# Altium integrated library Silicon Labs Automotive & Industrial MCUs.IntLib: 240 symbols (part 3 of 8)
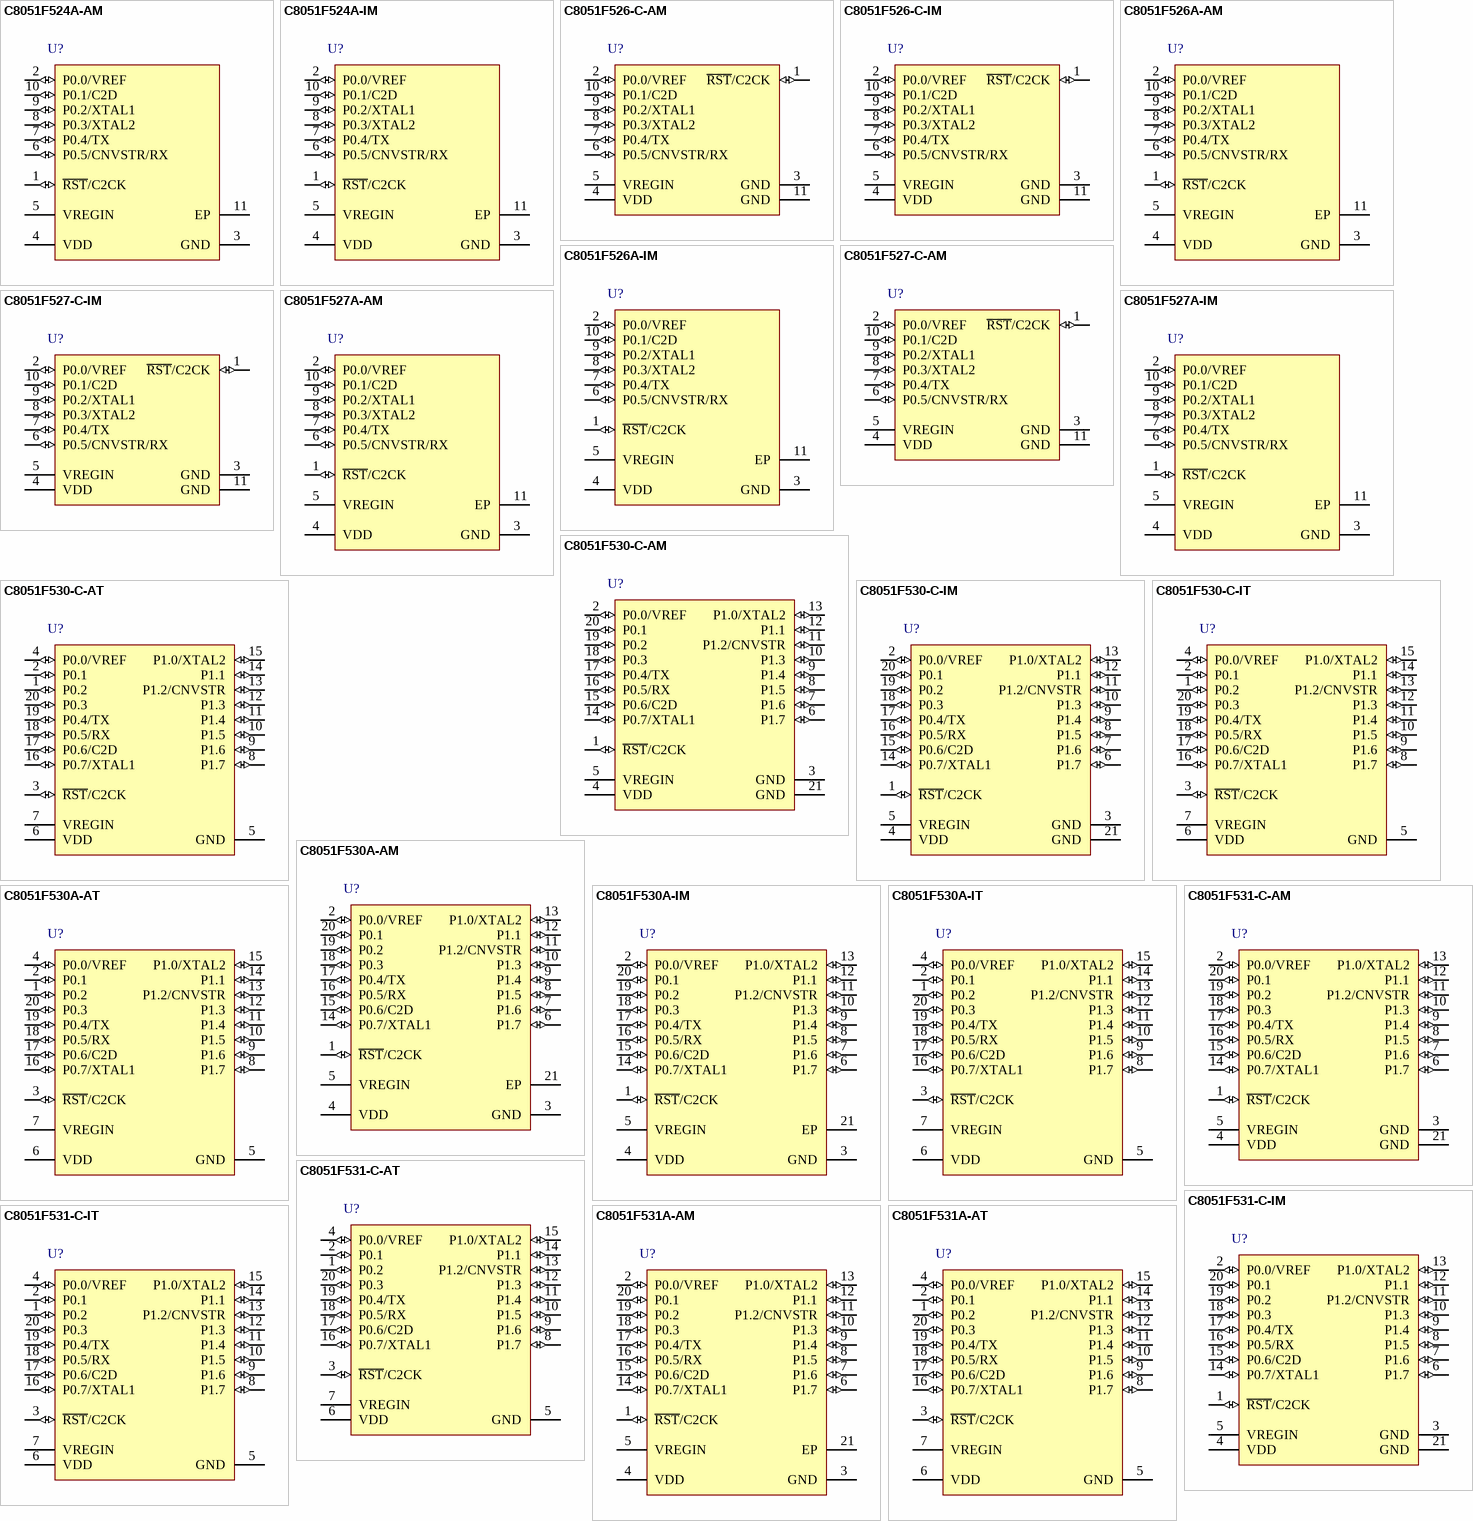
[diagram p15: symbols C8051F524A-AM to C8051F531A-AT]

## C8051F530A-AT
designator U?
Mixed Signal 8KB Flash ISP MCU, 256B RAM, 16 I/Os, 12-Bit 16 Channel ADC, LIN 2.1, 20-Pin TSSOP, Automotive Grade; Manufacturer: Silicon Labs; PartNumber: C8051F530A-AT; DatasheetVersion: rev1.3, Apr-2011; PackageVersion: 2011; PackageReference: TSSOP-20; PackageDescription: 20-Pin Thin Small Outline Package 6.5 x 4.4 mm Body, 0.65 mm Pitch; Code_JEDEC: MO-153-AC; ComponentLink1Description: Manufacturer URL; ComponentLink1URL: http://www.silabs.com; ComponentLink2Description: Datasheet; ComponentLink2URL: http://www.silabs.com/Support%20Documents/TechnicalDocs/C8051F52x-F53x.pdf
footprint TSSOP-20_N (TSOP, 20-Leads, Body 6.5x4.4mm, Pitch 0.65mm, IPC Medium Density)
footprint TSSOP-20_L (TSOP, 20-Leads, Body 6.5x4.4mm, Pitch 0.65mm, IPC High Density)
footprint TSSOP-20_M (TSOP, 20-Leads, Body 6.5x4.4mm, Pitch 0.65mm, IPC Low Density)
pins: 1 P0.2 (io), 2 P0.1 (io), 3 ~{RST}/C2CK (io), 4 P0.0/VREF (io), 5 GND (power), 6 VDD (power), 7 VREGIN (power), 8 P1.7 (io), 9 P1.6 (io), 10 P1.5 (io), 11 P1.4 (io), 12 P1.3 (io), 13 P1.2/CNVSTR (io), 14 P1.1 (io), 15 P1.0/XTAL2 (io), 16 P0.7/XTAL1 (io), 17 P0.6/C2D (io), 18 P0.5/RX (io), 19 P0.4/TX (io), 20 P0.3 (io)

## C8051F530A-IM
designator U?
Mixed Signal 8KB Flash ISP MCU, 256B RAM, 16 I/Os, 12-Bit 16 Channel ADC, LIN 2.1, 20-Pin QFN, Industrial Grade; Manufacturer: Silicon Labs; PartNumber: C8051F530A-IM; DatasheetVersion: rev1.3, Apr-2011; PackageVersion: 2011; PackageReference: QFN-20; PackageDescription: 20-Pin Quad Flat No-Lead, 4 x 4 x 0.9 mm Body, 0.5 mm Pitch; Supplier 1: Digi-Key; Supplier Part Number 1: 336-1485-5-ND; Supplier 2: Mouser; Supplier Part Number 2: 634-C8051F530A-IM; Code_JEDEC: MO-220-VGGD; ComponentLink1Description: Manufacturer URL; ComponentLink1URL: http://www.silabs.com; ComponentLink2Description: Datasheet; ComponentLink2URL: http://www.silabs.com/Support%20Documents/TechnicalDocs/C8051F52x-F53x.pdf
footprint QFN-20_V (QFN, 20-Leads, Body 4x4mm, Pitch 0.5mm, Thermal Pad 2.8x2.8mm, Silicon Labs Recommended)
pins: 1 ~{RST}/C2CK (io), 2 P0.0/VREF (io), 3 GND (power), 4 VDD (power), 5 VREGIN (power), 6 P1.7 (io), 7 P1.6 (io), 8 P1.5 (io), 9 P1.4 (io), 10 P1.3 (io), 11 P1.2/CNVSTR (io), 12 P1.1 (io), 13 P1.0/XTAL2 (io), 14 P0.7/XTAL1 (io), 15 P0.6/C2D (io), 16 P0.5/RX (io), 17 P0.4/TX (io), 18 P0.3 (io), 19 P0.2 (io), 20 P0.1 (io), 21 EP (power)

## C8051F530A-IT
designator U?
Mixed Signal 8KB Flash ISP MCU, 256B RAM, 16 I/Os, 12-Bit 16 Channel ADC, LIN 2.1, 20-Pin TSSOP, Industrial Grade; Manufacturer: Silicon Labs; PartNumber: C8051F530A-IT; DatasheetVersion: rev1.3, Apr-2011; PackageVersion: 2011; PackageReference: TSSOP-20; PackageDescription: 20-Pin Thin Small Outline Package 6.5 x 4.4 mm Body, 0.65 mm Pitch; Supplier 1: Digi-Key; Supplier Part Number 1: 336-1486-5-ND; Supplier 2: Mouser; Supplier Part Number 2: 634-C8051F530A-IT; Code_JEDEC: MO-153-AC; ComponentLink1Description: Manufacturer URL; ComponentLink1URL: http://www.silabs.com; ComponentLink2Description: Datasheet; ComponentLink2URL: http://www.silabs.com/Support%20Documents/TechnicalDocs/C8051F52x-F53x.pdf
footprint TSSOP-20_N (TSOP, 20-Leads, Body 6.5x4.4mm, Pitch 0.65mm, IPC Medium Density)
footprint TSSOP-20_L (TSOP, 20-Leads, Body 6.5x4.4mm, Pitch 0.65mm, IPC High Density)
footprint TSSOP-20_M (TSOP, 20-Leads, Body 6.5x4.4mm, Pitch 0.65mm, IPC Low Density)
pins: 1 P0.2 (io), 2 P0.1 (io), 3 ~{RST}/C2CK (io), 4 P0.0/VREF (io), 5 GND (power), 6 VDD (power), 7 VREGIN (power), 8 P1.7 (io), 9 P1.6 (io), 10 P1.5 (io), 11 P1.4 (io), 12 P1.3 (io), 13 P1.2/CNVSTR (io), 14 P1.1 (io), 15 P1.0/XTAL2 (io), 16 P0.7/XTAL1 (io), 17 P0.6/C2D (io), 18 P0.5/RX (io), 19 P0.4/TX (io), 20 P0.3 (io)

## C8051F531-C-AM
designator U?
ISP Flash MCU Family, 25 MHz, 0.25 kB RAM, 8 kB Flash, -40 to 125 degC, 20-pin QFN; Manufacturer: Silicon Labs; PartNumber: C8051F531-C-AM; Note: 0; ADC 1: 12-bit, 16-ch., 200 ksps; AEC-Q100: TRUE; Comparators: 1; Debug Interface: C2; Dig I/O Pins: 16; Flash: 8 kB; Internal Osc. Accuracy: +/-0.5%; MCU Core: 8051; MHz: 25; PCA Channels: 3; RAM: 0.25 kB; Sub-Family: Automotive & Industrial MCUs; DatasheetVersion: Rev. 1.4; PackageReference: QFN-20; PackageDescription: 20-Pin Quad-Flat No-Leads Package, Body 4 x 4 mm, Pitch 0.5 mm; Temp Sensor: TRUE; Timers (16-bit): 3; Mounting Technology: Surface Mount; Code_JEDEC: MO-220; Code_IPC: J-STD-020; ComponentLink1Description: Manufacturer URL; ComponentLink1URL: http://www.silabs.com; ComponentLink2Description: Datasheet; ComponentLink2URL: http://www.silabs.com/Support Documents/TechnicalDocs/C8051F52x-F53x.pdf; ComponentLink3Description: Package Specification; ComponentLink3URL: http://www.silabs.com/Support%20Documents/TechnicalDocs/C8051F52x-F53x.pdf
footprint SLAB-QFN-20-2700x2700TP_N (QFN, 20-Leads, Body 4x4mm, Pitch 0.5mm, Thermal Pad 2.7x2.7mm, IPC Medium Density)
footprint SLAB-QFN-20-2700x2700TP_L (QFN, 20-Leads, Body 4x4mm, Pitch 0.5mm, Thermal Pad 2.7x2.7mm, IPC High Density)
footprint SLAB-QFN-20-2700x2700TP_M (QFN, 20-Leads, Body 4x4mm, Pitch 0.5mm, Thermal Pad 2.7x2.7mm, IPC Low Density)
pins: 1 ~{RST}/C2CK (io), 2 P0.0/VREF (io), 3 GND (power) "Ground.", 4 VDD (power) "Core Supply Voltage.", 5 VREGIN (power) "On-Chip Voltage Regulator Input.", 6 P1.7 (io) "Port 1.7. See Port I/O Section for a complete description.", 7 P1.6 (io) "Port 1.6. See Port I/O Section for a complete description.", 8 P1.5 (io) "Port 1.5. See Port I/O Section for a complete description.", 9 P1.4 (io) "Port 1.4. See Port I/O Section for a complete description.", 10 P1.3 (io) "Port 1.3. See Port I/O Section for a complete description.", 11 P1.2/CNVSTR (io), 12 P1.1 (io) "Port 1.1. See Port I/O Section for a complete description.", 13 P1.0/XTAL2 (io), 14 P0.7/XTAL1 (io), 15 P0.6/C2D (io), 16 P0.5/RX (io), 17 P0.4/TX (io), 18 P0.3 (io) "Port 0.3. See Port I/O Section for a complete description.", 19 P0.2 (io) "Port 0.2. See Port I/O Section for a complete description.", 20 P0.1 (io) "Port 0.1. See Port I/O Section for a complete description.", 21 GND (power)

## C8051F531-C-AT
designator U?
ISP Flash MCU Family, 25 MHz, 0.25 kB RAM, 8 kB Flash, -40 to 125 degC, 20-pin SOP; Manufacturer: Silicon Labs; PartNumber: C8051F531-C-AT; Note: 0; ADC 1: 12-bit, 16-ch., 200 ksps; AEC-Q100: TRUE; Comparators: 1; Debug Interface: C2; Dig I/O Pins: 16; Flash: 8 kB; Internal Osc. Accuracy: +/-0.5%; MCU Core: 8051; MHz: 25; PCA Channels: 3; RAM: 0.25 kB; Sub-Family: Automotive & Industrial MCUs; DatasheetVersion: Rev. 1.4; PackageReference: TSSOP-20; PackageDescription: 20-Pin Thin Shrink Small-Outline Package, Body 6.5 x 4.4 mm, Pitch 0.65 mm; Temp Sensor: TRUE; Timers (16-bit): 3; Mounting Technology: Surface Mount; Code_JEDEC: MO-153; Code_IPC: J-STD-020; ComponentLink1Description: Manufacturer URL; ComponentLink1URL: http://www.silabs.com; ComponentLink2Description: Datasheet; ComponentLink2URL: http://www.silabs.com/Support Documents/TechnicalDocs/C8051F52x-F53x.pdf; ComponentLink3Description: Package Specification; ComponentLink3URL: http://www.silabs.com/Support Documents/TechnicalDocs/C8051F52x-F53x.pdf
footprint SLAB-TSSOP-20_N (SOP, 20-Leads, Body 6.6x4.5mm, Pitch 0.65mm, , IPC Medium Density)
footprint SLAB-TSSOP-20_L (SOP, 20-Leads, Body 6.6x4.5mm, Pitch 0.65mm, IPC High Density)
footprint SLAB-TSSOP-20_M (SOP, 20-Leads, Body 6.6x4.5mm, Pitch 0.65mm, IPC Low Density)
pins: 1 P0.2 (io) "Port 0.2. See Port I/O Section for a complete description.", 2 P0.1 (io) "Port 0.1. See Port I/O Section for a complete description.", 3 ~{RST}/C2CK (io), 4 P0.0/VREF (io), 5 GND (power) "Ground.", 6 VDD (power) "Core Supply Voltage.", 7 VREGIN (power) "On-Chip Voltage Regulator Input.", 8 P1.7 (io) "Port 1.7. See Port I/O Section for a complete description.", 9 P1.6 (io) "Port 1.6. See Port I/O Section for a complete description.", 10 P1.5 (io) "Port 1.5. See Port I/O Section for a complete description.", 11 P1.4 (io) "Port 1.4. See Port I/O Section for a complete description.", 12 P1.3 (io) "Port 1.3. See Port I/O Section for a complete description.", 13 P1.2/CNVSTR (io), 14 P1.1 (io) "Port 1.1. See Port I/O Section for a complete description.", 15 P1.0/XTAL2 (io), 16 P0.7/XTAL1 (io), 17 P0.6/C2D (io), 18 P0.5/RX (io), 19 P0.4/TX (io), 20 P0.3 (io) "Port 0.3. See Port I/O Section for a complete description."

## C8051F531-C-IM
designator U?
ISP Flash MCU Family, 25 MHz, 0.25 kB RAM, 8 kB Flash, -40 to 125 degC, 20-pin QFN; Manufacturer: Silicon Labs; PartNumber: C8051F531-C-IM; ADC 1: 12-bit, 16-ch., 200 ksps; AEC-Q100: FALSE; Comparators: 1; Debug Interface: C2; Dig I/O Pins: 16; Flash: 8 kB; Internal Osc. Accuracy: +/-0.5%; MCU Core: 8051; MHz: 25; PCA Channels: 3; RAM: 0.25 kB; Temp Sensor: TRUE; Sub-Family: Automotive & Industrial MCUs; DatasheetVersion: Rev. 1.4; PackageReference: QFN-20; PackageDescription: 20-Pin Quad-Flat No-Leads Package, Body 4 x 4 mm, Pitch 0.5 mm; Supplier 1: Digi-Key; Supplier Part Number 1: C8051F531-C-IM-ND; Supplier 2: Mouser; Supplier Part Number 2: 634-C8051F531-C-IM; Timers (16-bit): 3; Mounting Technology: Surface Mount; Code_JEDEC: MO-220; Code_IPC: J-STD-020; ComponentLink1Description: Manufacturer URL; ComponentLink1URL: http://www.silabs.com; ComponentLink2Description: Datasheet; ComponentLink2URL: http://www.silabs.com/Support Documents/TechnicalDocs/C8051F52x-F53x.pdf; ComponentLink3Description: Package Specification; ComponentLink3URL: http://www.silabs.com/Support%20Documents/TechnicalDocs/C8051F52x-F53x.pdf
footprint SLAB-QFN-20-2700x2700TP_N (QFN, 20-Leads, Body 4x4mm, Pitch 0.5mm, Thermal Pad 2.7x2.7mm, IPC Medium Density)
footprint SLAB-QFN-20-2700x2700TP_L (QFN, 20-Leads, Body 4x4mm, Pitch 0.5mm, Thermal Pad 2.7x2.7mm, IPC High Density)
footprint SLAB-QFN-20-2700x2700TP_M (QFN, 20-Leads, Body 4x4mm, Pitch 0.5mm, Thermal Pad 2.7x2.7mm, IPC Low Density)
pins: 1 ~{RST}/C2CK (io), 2 P0.0/VREF (io), 3 GND (power) "Ground.", 4 VDD (power) "Core Supply Voltage.", 5 VREGIN (power) "On-Chip Voltage Regulator Input.", 6 P1.7 (io) "Port 1.7. See Port I/O Section for a complete description.", 7 P1.6 (io) "Port 1.6. See Port I/O Section for a complete description.", 8 P1.5 (io) "Port 1.5. See Port I/O Section for a complete description.", 9 P1.4 (io) "Port 1.4. See Port I/O Section for a complete description.", 10 P1.3 (io) "Port 1.3. See Port I/O Section for a complete description.", 11 P1.2/CNVSTR (io), 12 P1.1 (io) "Port 1.1. See Port I/O Section for a complete description.", 13 P1.0/XTAL2 (io), 14 P0.7/XTAL1 (io), 15 P0.6/C2D (io), 16 P0.5/RX (io), 17 P0.4/TX (io), 18 P0.3 (io) "Port 0.3. See Port I/O Section for a complete description.", 19 P0.2 (io) "Port 0.2. See Port I/O Section for a complete description.", 20 P0.1 (io) "Port 0.1. See Port I/O Section for a complete description.", 21 GND (power)

## C8051F531-C-IT
designator U?
ISP Flash MCU Family, 25 MHz, 0.25 kB RAM, 8 kB Flash, -40 to 125 degC, 20-pin SOP; Manufacturer: Silicon Labs; PartNumber: C8051F531-C-IT; ADC 1: 12-bit, 16-ch., 200 ksps; AEC-Q100: FALSE; Comparators: 1; Debug Interface: C2; Dig I/O Pins: 16; Flash: 8 kB; Internal Osc. Accuracy: +/-0.5%; MCU Core: 8051; MHz: 25; PCA Channels: 3; RAM: 0.25 kB; Temp Sensor: TRUE; Sub-Family: Automotive & Industrial MCUs; DatasheetVersion: Rev. 1.4; PackageReference: TSSOP-20; PackageDescription: 20-Pin Thin Shrink Small-Outline Package, Body 6.5 x 4.4 mm, Pitch 0.65 mm; Supplier 1: Digi-Key; Supplier Part Number 1: C8051F531-C-IT-ND; Supplier 2: Mouser; Supplier Part Number 2: 634-C8051F531-C-IT; Timers (16-bit): 3; Mounting Technology: Surface Mount; Code_JEDEC: MO-153; Code_IPC: J-STD-020; ComponentLink1Description: Manufacturer URL; ComponentLink1URL: http://www.silabs.com; ComponentLink2Description: Datasheet; ComponentLink2URL: http://www.silabs.com/Support Documents/TechnicalDocs/C8051F52x-F53x.pdf; ComponentLink3Description: Package Specification; ComponentLink3URL: http://www.silabs.com/Support Documents/TechnicalDocs/C8051F52x-F53x.pdf
footprint SLAB-TSSOP-20_N (SOP, 20-Leads, Body 6.6x4.5mm, Pitch 0.65mm, , IPC Medium Density)
footprint SLAB-TSSOP-20_L (SOP, 20-Leads, Body 6.6x4.5mm, Pitch 0.65mm, IPC High Density)
footprint SLAB-TSSOP-20_M (SOP, 20-Leads, Body 6.6x4.5mm, Pitch 0.65mm, IPC Low Density)
pins: 1 P0.2 (io) "Port 0.2. See Port I/O Section for a complete description.", 2 P0.1 (io) "Port 0.1. See Port I/O Section for a complete description.", 3 ~{RST}/C2CK (io), 4 P0.0/VREF (io), 5 GND (power) "Ground.", 6 VDD (power) "Core Supply Voltage.", 7 VREGIN (power) "On-Chip Voltage Regulator Input.", 8 P1.7 (io) "Port 1.7. See Port I/O Section for a complete description.", 9 P1.6 (io) "Port 1.6. See Port I/O Section for a complete description.", 10 P1.5 (io) "Port 1.5. See Port I/O Section for a complete description.", 11 P1.4 (io) "Port 1.4. See Port I/O Section for a complete description.", 12 P1.3 (io) "Port 1.3. See Port I/O Section for a complete description.", 13 P1.2/CNVSTR (io), 14 P1.1 (io) "Port 1.1. See Port I/O Section for a complete description.", 15 P1.0/XTAL2 (io), 16 P0.7/XTAL1 (io), 17 P0.6/C2D (io), 18 P0.5/RX (io), 19 P0.4/TX (io), 20 P0.3 (io) "Port 0.3. See Port I/O Section for a complete description."

## C8051F531A-AM
designator U?
Mixed Signal 8KB Flash ISP MCU, 256B RAM, 16 I/Os, 12-Bit 16 Channel ADC, SPI, 20-Pin QFN, Automotive Grade; Manufacturer: Silicon Labs; PartNumber: C8051F531A-AM; DatasheetVersion: rev1.3, Apr-2011; PackageVersion: 2011; PackageReference: QFN-20; PackageDescription: 20-Pin Quad Flat No-Lead, 4 x 4 x 0.9 mm Body, 0.5 mm Pitch; Code_JEDEC: MO-220-VGGD; ComponentLink1Description: Manufacturer URL; ComponentLink1URL: http://www.silabs.com; ComponentLink2Description: Datasheet; ComponentLink2URL: http://www.silabs.com/Support%20Documents/TechnicalDocs/C8051F52x-F53x.pdf
footprint QFN-20_V (QFN, 20-Leads, Body 4x4mm, Pitch 0.5mm, Thermal Pad 2.8x2.8mm, Silicon Labs Recommended)
pins: 1 ~{RST}/C2CK (io), 2 P0.0/VREF (io), 3 GND (power), 4 VDD (power), 5 VREGIN (power), 6 P1.7 (io), 7 P1.6 (io), 8 P1.5 (io), 9 P1.4 (io), 10 P1.3 (io), 11 P1.2/CNVSTR (io), 12 P1.1 (io), 13 P1.0/XTAL2 (io), 14 P0.7/XTAL1 (io), 15 P0.6/C2D (io), 16 P0.5/RX (io), 17 P0.4/TX (io), 18 P0.3 (io), 19 P0.2 (io), 20 P0.1 (io), 21 EP (power)

## C8051F531A-AT
designator U?
Mixed Signal 8KB Flash ISP MCU, 256B RAM, 16 I/Os, 12-Bit 16 Channel ADC, SPI, 20-Pin TSSOP, Automotive Grade; Manufacturer: Silicon Labs; PartNumber: C8051F531A-AT; DatasheetVersion: rev1.3, Apr-2011; PackageVersion: 2011; PackageReference: TSSOP-20; PackageDescription: 20-Pin Thin Small Outline Package 6.5 x 4.4 mm Body, 0.65 mm Pitch; Code_JEDEC: MO-153-AC; ComponentLink1Description: Manufacturer URL; ComponentLink1URL: http://www.silabs.com; ComponentLink2Description: Datasheet; ComponentLink2URL: http://www.silabs.com/Support%20Documents/TechnicalDocs/C8051F52x-F53x.pdf
footprint TSSOP-20_N (TSOP, 20-Leads, Body 6.5x4.4mm, Pitch 0.65mm, IPC Medium Density)
footprint TSSOP-20_L (TSOP, 20-Leads, Body 6.5x4.4mm, Pitch 0.65mm, IPC High Density)
footprint TSSOP-20_M (TSOP, 20-Leads, Body 6.5x4.4mm, Pitch 0.65mm, IPC Low Density)
pins: 1 P0.2 (io), 2 P0.1 (io), 3 ~{RST}/C2CK (io), 4 P0.0/VREF (io), 5 GND (power), 6 VDD (power), 7 VREGIN (power), 8 P1.7 (io), 9 P1.6 (io), 10 P1.5 (io), 11 P1.4 (io), 12 P1.3 (io), 13 P1.2/CNVSTR (io), 14 P1.1 (io), 15 P1.0/XTAL2 (io), 16 P0.7/XTAL1 (io), 17 P0.6/C2D (io), 18 P0.5/RX (io), 19 P0.4/TX (io), 20 P0.3 (io)

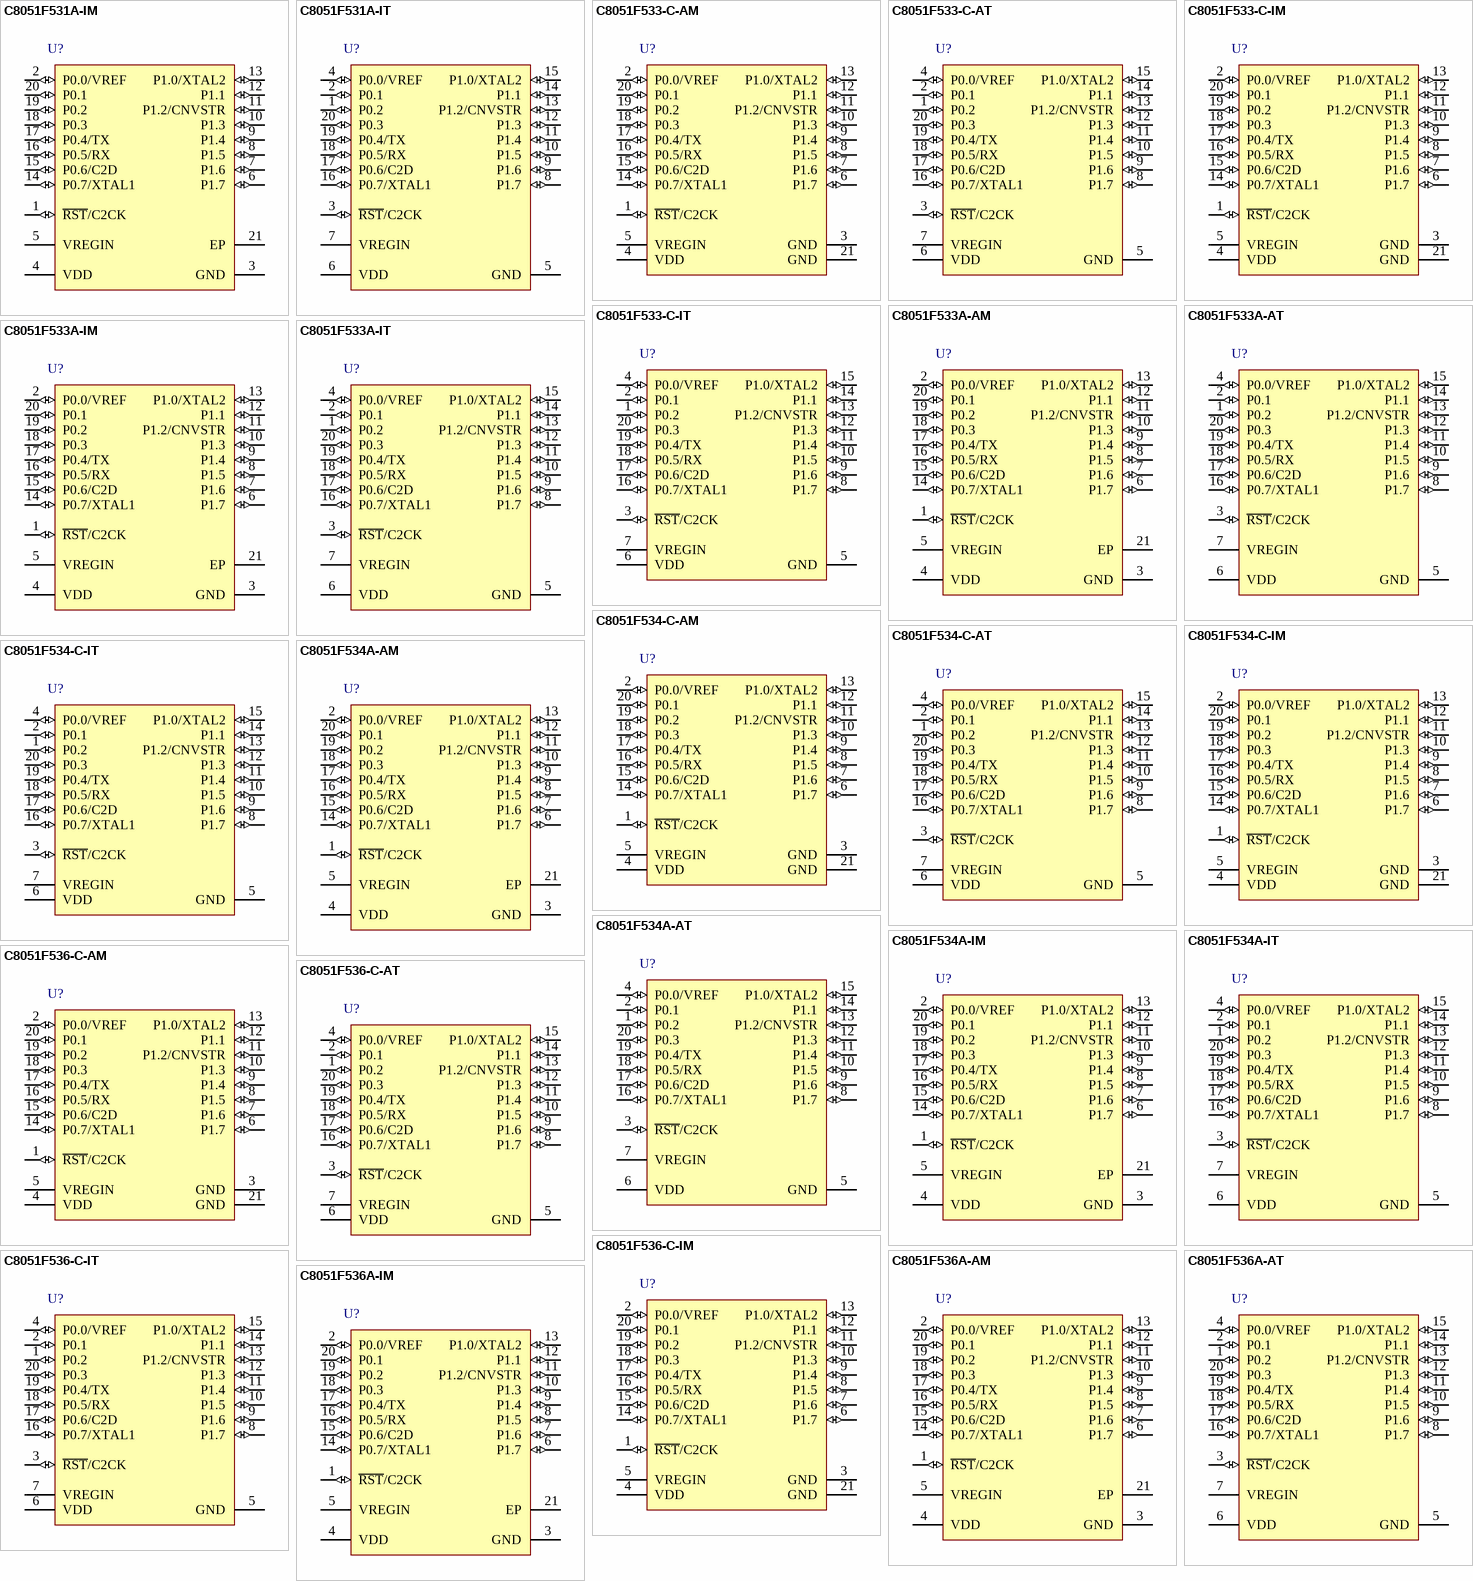
[diagram p4: symbols C8051F531A-IM to C8051F536A-IM]

## C8051F531A-IM
designator U?
Mixed Signal 8KB Flash ISP MCU, 256B RAM, 16 I/Os, 12-Bit 16 Channel ADC, SPI, 20-Pin QFN, Industrial Grade; Manufacturer: Silicon Labs; PartNumber: C8051F531A-IM; DatasheetVersion: rev1.3, Apr-2011; PackageVersion: 2011; PackageReference: QFN-20; PackageDescription: 20-Pin Quad Flat No-Lead, 4 x 4 x 0.9 mm Body, 0.5 mm Pitch; Supplier 1: Digi-Key; Supplier Part Number 1: 336-1495-5-ND; Supplier 2: Mouser; Supplier Part Number 2: 634-C8051F531A-IM; Code_JEDEC: MO-220-VGGD; ComponentLink1Description: Manufacturer URL; ComponentLink1URL: http://www.silabs.com; ComponentLink2Description: Datasheet; ComponentLink2URL: http://www.silabs.com/Support%20Documents/TechnicalDocs/C8051F52x-F53x.pdf
footprint QFN-20_V (QFN, 20-Leads, Body 4x4mm, Pitch 0.5mm, Thermal Pad 2.8x2.8mm, Silicon Labs Recommended)
pins: 1 ~{RST}/C2CK (io), 2 P0.0/VREF (io), 3 GND (power), 4 VDD (power), 5 VREGIN (power), 6 P1.7 (io), 7 P1.6 (io), 8 P1.5 (io), 9 P1.4 (io), 10 P1.3 (io), 11 P1.2/CNVSTR (io), 12 P1.1 (io), 13 P1.0/XTAL2 (io), 14 P0.7/XTAL1 (io), 15 P0.6/C2D (io), 16 P0.5/RX (io), 17 P0.4/TX (io), 18 P0.3 (io), 19 P0.2 (io), 20 P0.1 (io), 21 EP (power)

## C8051F531A-IT
designator U?
Mixed Signal 8KB Flash ISP MCU, 256B RAM, 16 I/Os, 12-Bit 16 Channel ADC, SPI, 20-Pin TSSOP, Industrial Grade; Manufacturer: Silicon Labs; PartNumber: C8051F531A-IT; DatasheetVersion: rev1.3, Apr-2011; PackageVersion: 2011; PackageReference: TSSOP-20; PackageDescription: 20-Pin Thin Small Outline Package 6.5 x 4.4 mm Body, 0.65 mm Pitch; Supplier 1: Digi-Key; Supplier Part Number 1: 336-1496-5-ND; Supplier 2: Mouser; Supplier Part Number 2: 634-C8051F531A-IT; Code_JEDEC: MO-153-AC; ComponentLink1Description: Manufacturer URL; ComponentLink1URL: http://www.silabs.com; ComponentLink2Description: Datasheet; ComponentLink2URL: http://www.silabs.com/Support%20Documents/TechnicalDocs/C8051F52x-F53x.pdf
footprint TSSOP-20_N (TSOP, 20-Leads, Body 6.5x4.4mm, Pitch 0.65mm, IPC Medium Density)
footprint TSSOP-20_L (TSOP, 20-Leads, Body 6.5x4.4mm, Pitch 0.65mm, IPC High Density)
footprint TSSOP-20_M (TSOP, 20-Leads, Body 6.5x4.4mm, Pitch 0.65mm, IPC Low Density)
pins: 1 P0.2 (io), 2 P0.1 (io), 3 ~{RST}/C2CK (io), 4 P0.0/VREF (io), 5 GND (power), 6 VDD (power), 7 VREGIN (power), 8 P1.7 (io), 9 P1.6 (io), 10 P1.5 (io), 11 P1.4 (io), 12 P1.3 (io), 13 P1.2/CNVSTR (io), 14 P1.1 (io), 15 P1.0/XTAL2 (io), 16 P0.7/XTAL1 (io), 17 P0.6/C2D (io), 18 P0.5/RX (io), 19 P0.4/TX (io), 20 P0.3 (io)

## C8051F533-C-AM
designator U?
ISP Flash MCU Family, 25 MHz, 0.25 kB RAM, 4 kB Flash, -40 to 125 degC, 20-pin QFN; Manufacturer: Silicon Labs; PartNumber: C8051F533-C-AM; Note: 0; ADC 1: 12-bit, 16-ch., 200 ksps; AEC-Q100: TRUE; Comparators: 1; Debug Interface: C2; Dig I/O Pins: 16; Flash: 4 kB; Internal Osc. Accuracy: +/-0.5%; MCU Core: 8051; MHz: 25; PCA Channels: 3; RAM: 0.25 kB; Sub-Family: Automotive & Industrial MCUs; DatasheetVersion: Rev. 1.4; PackageReference: QFN-20; PackageDescription: 20-Pin Quad-Flat No-Leads Package, Body 4 x 4 mm, Pitch 0.5 mm; Temp Sensor: TRUE; Timers (16-bit): 3; Mounting Technology: Surface Mount; Code_JEDEC: MO-220; Code_IPC: J-STD-020; ComponentLink1Description: Manufacturer URL; ComponentLink1URL: http://www.silabs.com; ComponentLink2Description: Datasheet; ComponentLink2URL: http://www.silabs.com/Support Documents/TechnicalDocs/C8051F52x-F53x.pdf; ComponentLink3Description: Package Specification; ComponentLink3URL: http://www.silabs.com/Support%20Documents/TechnicalDocs/C8051F52x-F53x.pdf
footprint SLAB-QFN-20-2700x2700TP_N (QFN, 20-Leads, Body 4x4mm, Pitch 0.5mm, Thermal Pad 2.7x2.7mm, IPC Medium Density)
footprint SLAB-QFN-20-2700x2700TP_L (QFN, 20-Leads, Body 4x4mm, Pitch 0.5mm, Thermal Pad 2.7x2.7mm, IPC High Density)
footprint SLAB-QFN-20-2700x2700TP_M (QFN, 20-Leads, Body 4x4mm, Pitch 0.5mm, Thermal Pad 2.7x2.7mm, IPC Low Density)
pins: 1 ~{RST}/C2CK (io), 2 P0.0/VREF (io), 3 GND (power) "Ground.", 4 VDD (power) "Core Supply Voltage.", 5 VREGIN (power) "On-Chip Voltage Regulator Input.", 6 P1.7 (io) "Port 1.7. See Port I/O Section for a complete description.", 7 P1.6 (io) "Port 1.6. See Port I/O Section for a complete description.", 8 P1.5 (io) "Port 1.5. See Port I/O Section for a complete description.", 9 P1.4 (io) "Port 1.4. See Port I/O Section for a complete description.", 10 P1.3 (io) "Port 1.3. See Port I/O Section for a complete description.", 11 P1.2/CNVSTR (io), 12 P1.1 (io) "Port 1.1. See Port I/O Section for a complete description.", 13 P1.0/XTAL2 (io), 14 P0.7/XTAL1 (io), 15 P0.6/C2D (io), 16 P0.5/RX (io), 17 P0.4/TX (io), 18 P0.3 (io) "Port 0.3. See Port I/O Section for a complete description.", 19 P0.2 (io) "Port 0.2. See Port I/O Section for a complete description.", 20 P0.1 (io) "Port 0.1. See Port I/O Section for a complete description.", 21 GND (power)

## C8051F533-C-AT
designator U?
ISP Flash MCU Family, 25 MHz, 0.25 kB RAM, 4 kB Flash, -40 to 125 degC, 20-pin SOP; Manufacturer: Silicon Labs; PartNumber: C8051F533-C-AT; Note: 0; ADC 1: 12-bit, 16-ch., 200 ksps; AEC-Q100: TRUE; Comparators: 1; Debug Interface: C2; Dig I/O Pins: 16; Flash: 4 kB; Internal Osc. Accuracy: +/-0.5%; MCU Core: 8051; MHz: 25; PCA Channels: 3; RAM: 0.25 kB; Sub-Family: Automotive & Industrial MCUs; DatasheetVersion: Rev. 1.4; PackageReference: TSSOP-20; PackageDescription: 20-Pin Thin Shrink Small-Outline Package, Body 6.5 x 4.4 mm, Pitch 0.65 mm; Temp Sensor: TRUE; Timers (16-bit): 3; Mounting Technology: Surface Mount; Code_JEDEC: MO-153; Code_IPC: J-STD-020; ComponentLink1Description: Manufacturer URL; ComponentLink1URL: http://www.silabs.com; ComponentLink2Description: Datasheet; ComponentLink2URL: http://www.silabs.com/Support Documents/TechnicalDocs/C8051F52x-F53x.pdf; ComponentLink3Description: Package Specification; ComponentLink3URL: http://www.silabs.com/Support Documents/TechnicalDocs/C8051F52x-F53x.pdf
footprint SLAB-TSSOP-20_N (SOP, 20-Leads, Body 6.6x4.5mm, Pitch 0.65mm, , IPC Medium Density)
footprint SLAB-TSSOP-20_L (SOP, 20-Leads, Body 6.6x4.5mm, Pitch 0.65mm, IPC High Density)
footprint SLAB-TSSOP-20_M (SOP, 20-Leads, Body 6.6x4.5mm, Pitch 0.65mm, IPC Low Density)
pins: 1 P0.2 (io) "Port 0.2. See Port I/O Section for a complete description.", 2 P0.1 (io) "Port 0.1. See Port I/O Section for a complete description.", 3 ~{RST}/C2CK (io), 4 P0.0/VREF (io), 5 GND (power) "Ground.", 6 VDD (power) "Core Supply Voltage.", 7 VREGIN (power) "On-Chip Voltage Regulator Input.", 8 P1.7 (io) "Port 1.7. See Port I/O Section for a complete description.", 9 P1.6 (io) "Port 1.6. See Port I/O Section for a complete description.", 10 P1.5 (io) "Port 1.5. See Port I/O Section for a complete description.", 11 P1.4 (io) "Port 1.4. See Port I/O Section for a complete description.", 12 P1.3 (io) "Port 1.3. See Port I/O Section for a complete description.", 13 P1.2/CNVSTR (io), 14 P1.1 (io) "Port 1.1. See Port I/O Section for a complete description.", 15 P1.0/XTAL2 (io), 16 P0.7/XTAL1 (io), 17 P0.6/C2D (io), 18 P0.5/RX (io), 19 P0.4/TX (io), 20 P0.3 (io) "Port 0.3. See Port I/O Section for a complete description."

## C8051F533-C-IM
designator U?
ISP Flash MCU Family, 25 MHz, 0.25 kB RAM, 4 kB Flash, -40 to 125 degC, 20-pin QFN; Manufacturer: Silicon Labs; PartNumber: C8051F533-C-IM; ADC 1: 12-bit, 16-ch., 200 ksps; AEC-Q100: FALSE; Comparators: 1; Debug Interface: C2; Dig I/O Pins: 16; Flash: 4 kB; Internal Osc. Accuracy: +/-0.5%; MCU Core: 8051; MHz: 25; PCA Channels: 3; RAM: 0.25 kB; Temp Sensor: TRUE; Sub-Family: Automotive & Industrial MCUs; DatasheetVersion: Rev. 1.4; PackageReference: QFN-20; PackageDescription: 20-Pin Quad-Flat No-Leads Package, Body 4 x 4 mm, Pitch 0.5 mm; Supplier 1: Digi-Key; Supplier Part Number 1: C8051F533-C-IM-ND; Supplier 2: Mouser; Supplier Part Number 2: 634-C8051F533-C-IM; Timers (16-bit): 3; Mounting Technology: Surface Mount; Code_JEDEC: MO-220; Code_IPC: J-STD-020; ComponentLink1Description: Manufacturer URL; ComponentLink1URL: http://www.silabs.com; ComponentLink2Description: Datasheet; ComponentLink2URL: http://www.silabs.com/Support Documents/TechnicalDocs/C8051F52x-F53x.pdf; ComponentLink3Description: Package Specification; ComponentLink3URL: http://www.silabs.com/Support%20Documents/TechnicalDocs/C8051F52x-F53x.pdf
footprint SLAB-QFN-20-2700x2700TP_N (QFN, 20-Leads, Body 4x4mm, Pitch 0.5mm, Thermal Pad 2.7x2.7mm, IPC Medium Density)
footprint SLAB-QFN-20-2700x2700TP_L (QFN, 20-Leads, Body 4x4mm, Pitch 0.5mm, Thermal Pad 2.7x2.7mm, IPC High Density)
footprint SLAB-QFN-20-2700x2700TP_M (QFN, 20-Leads, Body 4x4mm, Pitch 0.5mm, Thermal Pad 2.7x2.7mm, IPC Low Density)
pins: 1 ~{RST}/C2CK (io), 2 P0.0/VREF (io), 3 GND (power) "Ground.", 4 VDD (power) "Core Supply Voltage.", 5 VREGIN (power) "On-Chip Voltage Regulator Input.", 6 P1.7 (io) "Port 1.7. See Port I/O Section for a complete description.", 7 P1.6 (io) "Port 1.6. See Port I/O Section for a complete description.", 8 P1.5 (io) "Port 1.5. See Port I/O Section for a complete description.", 9 P1.4 (io) "Port 1.4. See Port I/O Section for a complete description.", 10 P1.3 (io) "Port 1.3. See Port I/O Section for a complete description.", 11 P1.2/CNVSTR (io), 12 P1.1 (io) "Port 1.1. See Port I/O Section for a complete description.", 13 P1.0/XTAL2 (io), 14 P0.7/XTAL1 (io), 15 P0.6/C2D (io), 16 P0.5/RX (io), 17 P0.4/TX (io), 18 P0.3 (io) "Port 0.3. See Port I/O Section for a complete description.", 19 P0.2 (io) "Port 0.2. See Port I/O Section for a complete description.", 20 P0.1 (io) "Port 0.1. See Port I/O Section for a complete description.", 21 GND (power)

## C8051F533-C-IT
designator U?
ISP Flash MCU Family, 25 MHz, 0.25 kB RAM, 4 kB Flash, -40 to 125 degC, 20-pin SOP; Manufacturer: Silicon Labs; PartNumber: C8051F533-C-IT; ADC 1: 12-bit, 16-ch., 200 ksps; AEC-Q100: FALSE; Comparators: 1; Debug Interface: C2; Dig I/O Pins: 16; Flash: 4 kB; Internal Osc. Accuracy: +/-0.5%; MCU Core: 8051; MHz: 25; PCA Channels: 3; RAM: 0.25 kB; Temp Sensor: TRUE; Sub-Family: Automotive & Industrial MCUs; DatasheetVersion: Rev. 1.4; PackageReference: TSSOP-20; PackageDescription: 20-Pin Thin Shrink Small-Outline Package, Body 6.5 x 4.4 mm, Pitch 0.65 mm; Supplier 1: Digi-Key; Supplier Part Number 1: C8051F533-C-IT-ND; Supplier 2: Mouser; Supplier Part Number 2: 634-C8051F533-C-IT; Timers (16-bit): 3; Mounting Technology: Surface Mount; Code_JEDEC: MO-153; Code_IPC: J-STD-020; ComponentLink1Description: Manufacturer URL; ComponentLink1URL: http://www.silabs.com; ComponentLink2Description: Datasheet; ComponentLink2URL: http://www.silabs.com/Support Documents/TechnicalDocs/C8051F52x-F53x.pdf; ComponentLink3Description: Package Specification; ComponentLink3URL: http://www.silabs.com/Support Documents/TechnicalDocs/C8051F52x-F53x.pdf
footprint SLAB-TSSOP-20_N (SOP, 20-Leads, Body 6.6x4.5mm, Pitch 0.65mm, , IPC Medium Density)
footprint SLAB-TSSOP-20_L (SOP, 20-Leads, Body 6.6x4.5mm, Pitch 0.65mm, IPC High Density)
footprint SLAB-TSSOP-20_M (SOP, 20-Leads, Body 6.6x4.5mm, Pitch 0.65mm, IPC Low Density)
pins: 1 P0.2 (io) "Port 0.2. See Port I/O Section for a complete description.", 2 P0.1 (io) "Port 0.1. See Port I/O Section for a complete description.", 3 ~{RST}/C2CK (io), 4 P0.0/VREF (io), 5 GND (power) "Ground.", 6 VDD (power) "Core Supply Voltage.", 7 VREGIN (power) "On-Chip Voltage Regulator Input.", 8 P1.7 (io) "Port 1.7. See Port I/O Section for a complete description.", 9 P1.6 (io) "Port 1.6. See Port I/O Section for a complete description.", 10 P1.5 (io) "Port 1.5. See Port I/O Section for a complete description.", 11 P1.4 (io) "Port 1.4. See Port I/O Section for a complete description.", 12 P1.3 (io) "Port 1.3. See Port I/O Section for a complete description.", 13 P1.2/CNVSTR (io), 14 P1.1 (io) "Port 1.1. See Port I/O Section for a complete description.", 15 P1.0/XTAL2 (io), 16 P0.7/XTAL1 (io), 17 P0.6/C2D (io), 18 P0.5/RX (io), 19 P0.4/TX (io), 20 P0.3 (io) "Port 0.3. See Port I/O Section for a complete description."

## C8051F533A-AM
designator U?
Mixed Signal 4KB Flash ISP MCU, 256B RAM, 16 I/Os, 12-Bit 16 Channel ADC, LIN 2.1, 20-Pin QFN, Automotive Grade; Manufacturer: Silicon Labs; PartNumber: C8051F533A-AM; DatasheetVersion: rev1.3, Apr-2011; PackageVersion: 2011; PackageReference: QFN-20; PackageDescription: 20-Pin Quad Flat No-Lead, 4 x 4 x 0.9 mm Body, 0.5 mm Pitch; Code_JEDEC: MO-220-VGGD; ComponentLink1Description: Manufacturer URL; ComponentLink1URL: http://www.silabs.com; ComponentLink2Description: Datasheet; ComponentLink2URL: http://www.silabs.com/Support%20Documents/TechnicalDocs/C8051F52x-F53x.pdf
footprint QFN-20_V (QFN, 20-Leads, Body 4x4mm, Pitch 0.5mm, Thermal Pad 2.8x2.8mm, Silicon Labs Recommended)
pins: 1 ~{RST}/C2CK (io), 2 P0.0/VREF (io), 3 GND (power), 4 VDD (power), 5 VREGIN (power), 6 P1.7 (io), 7 P1.6 (io), 8 P1.5 (io), 9 P1.4 (io), 10 P1.3 (io), 11 P1.2/CNVSTR (io), 12 P1.1 (io), 13 P1.0/XTAL2 (io), 14 P0.7/XTAL1 (io), 15 P0.6/C2D (io), 16 P0.5/RX (io), 17 P0.4/TX (io), 18 P0.3 (io), 19 P0.2 (io), 20 P0.1 (io), 21 EP (power)

## C8051F533A-AT
designator U?
Mixed Signal 4KB Flash ISP MCU, 256B RAM, 16 I/Os, 12-Bit 16 Channel ADC, LIN 2.1, 20-Pin TSSOP, Automotive Grade; Manufacturer: Silicon Labs; PartNumber: C8051F533A-AT; DatasheetVersion: rev1.3, Apr-2011; PackageVersion: 2011; PackageReference: TSSOP-20; PackageDescription: 20-Pin Thin Small Outline Package 6.5 x 4.4 mm Body, 0.65 mm Pitch; Code_JEDEC: MO-153-AC; ComponentLink1Description: Manufacturer URL; ComponentLink1URL: http://www.silabs.com; ComponentLink2Description: Datasheet; ComponentLink2URL: http://www.silabs.com/Support%20Documents/TechnicalDocs/C8051F52x-F53x.pdf
footprint TSSOP-20_N (TSOP, 20-Leads, Body 6.5x4.4mm, Pitch 0.65mm, IPC Medium Density)
footprint TSSOP-20_L (TSOP, 20-Leads, Body 6.5x4.4mm, Pitch 0.65mm, IPC High Density)
footprint TSSOP-20_M (TSOP, 20-Leads, Body 6.5x4.4mm, Pitch 0.65mm, IPC Low Density)
pins: 1 P0.2 (io), 2 P0.1 (io), 3 ~{RST}/C2CK (io), 4 P0.0/VREF (io), 5 GND (power), 6 VDD (power), 7 VREGIN (power), 8 P1.7 (io), 9 P1.6 (io), 10 P1.5 (io), 11 P1.4 (io), 12 P1.3 (io), 13 P1.2/CNVSTR (io), 14 P1.1 (io), 15 P1.0/XTAL2 (io), 16 P0.7/XTAL1 (io), 17 P0.6/C2D (io), 18 P0.5/RX (io), 19 P0.4/TX (io), 20 P0.3 (io)

## C8051F533A-IM
designator U?
Mixed Signal 4KB Flash ISP MCU, 256B RAM, 16 I/Os, 12-Bit 16 Channel ADC, LIN 2.1, 20-Pin QFN, Industrial Grade; Manufacturer: Silicon Labs; PartNumber: C8051F533A-IM; DatasheetVersion: rev1.3, Apr-2011; PackageVersion: 2011; PackageReference: QFN-20; PackageDescription: 20-Pin Quad Flat No-Lead, 4 x 4 x 0.9 mm Body, 0.5 mm Pitch; Supplier 1: Digi-Key; Supplier Part Number 1: 336-1497-5-ND; Supplier 2: Mouser; Supplier Part Number 2: 634-C8051F533A-IM; Code_JEDEC: MO-220-VGGD; ComponentLink1Description: Manufacturer URL; ComponentLink1URL: http://www.silabs.com; ComponentLink2Description: Datasheet; ComponentLink2URL: http://www.silabs.com/Support%20Documents/TechnicalDocs/C8051F52x-F53x.pdf
footprint QFN-20_V (QFN, 20-Leads, Body 4x4mm, Pitch 0.5mm, Thermal Pad 2.8x2.8mm, Silicon Labs Recommended)
pins: 1 ~{RST}/C2CK (io), 2 P0.0/VREF (io), 3 GND (power), 4 VDD (power), 5 VREGIN (power), 6 P1.7 (io), 7 P1.6 (io), 8 P1.5 (io), 9 P1.4 (io), 10 P1.3 (io), 11 P1.2/CNVSTR (io), 12 P1.1 (io), 13 P1.0/XTAL2 (io), 14 P0.7/XTAL1 (io), 15 P0.6/C2D (io), 16 P0.5/RX (io), 17 P0.4/TX (io), 18 P0.3 (io), 19 P0.2 (io), 20 P0.1 (io), 21 EP (power)

## C8051F533A-IT
designator U?
Mixed Signal 4KB Flash ISP MCU, 256B RAM, 16 I/Os, 12-Bit 16 Channel ADC, LIN 2.1, 20-Pin TSSOP, Industrial Grade; Manufacturer: Silicon Labs; PartNumber: C8051F533A-IT; DatasheetVersion: rev1.3, Apr-2011; PackageVersion: 2011; PackageReference: TSSOP-20; PackageDescription: 20-Pin Thin Small Outline Package 6.5 x 4.4 mm Body, 0.65 mm Pitch; Supplier 1: Digi-Key; Supplier Part Number 1: 336-1498-5-ND; Supplier 2: Mouser; Supplier Part Number 2: 634-C8051F533A-IT; Code_JEDEC: MO-153-AC; ComponentLink1Description: Manufacturer URL; ComponentLink1URL: http://www.silabs.com; ComponentLink2Description: Datasheet; ComponentLink2URL: http://www.silabs.com/Support%20Documents/TechnicalDocs/C8051F52x-F53x.pdf
footprint TSSOP-20_N (TSOP, 20-Leads, Body 6.5x4.4mm, Pitch 0.65mm, IPC Medium Density)
footprint TSSOP-20_L (TSOP, 20-Leads, Body 6.5x4.4mm, Pitch 0.65mm, IPC High Density)
footprint TSSOP-20_M (TSOP, 20-Leads, Body 6.5x4.4mm, Pitch 0.65mm, IPC Low Density)
pins: 1 P0.2 (io), 2 P0.1 (io), 3 ~{RST}/C2CK (io), 4 P0.0/VREF (io), 5 GND (power), 6 VDD (power), 7 VREGIN (power), 8 P1.7 (io), 9 P1.6 (io), 10 P1.5 (io), 11 P1.4 (io), 12 P1.3 (io), 13 P1.2/CNVSTR (io), 14 P1.1 (io), 15 P1.0/XTAL2 (io), 16 P0.7/XTAL1 (io), 17 P0.6/C2D (io), 18 P0.5/RX (io), 19 P0.4/TX (io), 20 P0.3 (io)

## C8051F534-C-AM
designator U?
ISP Flash MCU Family, 25 MHz, 0.25 kB RAM, 4 kB Flash, -40 to 125 degC, 20-pin QFN; Manufacturer: Silicon Labs; PartNumber: C8051F534-C-AM; Note: 0; ADC 1: 12-bit, 16-ch., 200 ksps; AEC-Q100: TRUE; Comparators: 1; Debug Interface: C2; Dig I/O Pins: 16; Flash: 4 kB; Internal Osc. Accuracy: +/-0.5%; MCU Core: 8051; MHz: 25; PCA Channels: 3; RAM: 0.25 kB; Sub-Family: Automotive & Industrial MCUs; DatasheetVersion: Rev. 1.4; PackageReference: QFN-20; PackageDescription: 20-Pin Quad-Flat No-Leads Package, Body 4 x 4 mm, Pitch 0.5 mm; Temp Sensor: TRUE; Timers (16-bit): 3; Mounting Technology: Surface Mount; Code_JEDEC: MO-220; Code_IPC: J-STD-020; ComponentLink1Description: Manufacturer URL; ComponentLink1URL: http://www.silabs.com; ComponentLink2Description: Datasheet; ComponentLink2URL: http://www.silabs.com/Support Documents/TechnicalDocs/C8051F52x-F53x.pdf; ComponentLink3Description: Package Specification; ComponentLink3URL: http://www.silabs.com/Support%20Documents/TechnicalDocs/C8051F52x-F53x.pdf
footprint SLAB-QFN-20-2700x2700TP_N (QFN, 20-Leads, Body 4x4mm, Pitch 0.5mm, Thermal Pad 2.7x2.7mm, IPC Medium Density)
footprint SLAB-QFN-20-2700x2700TP_L (QFN, 20-Leads, Body 4x4mm, Pitch 0.5mm, Thermal Pad 2.7x2.7mm, IPC High Density)
footprint SLAB-QFN-20-2700x2700TP_M (QFN, 20-Leads, Body 4x4mm, Pitch 0.5mm, Thermal Pad 2.7x2.7mm, IPC Low Density)
pins: 1 ~{RST}/C2CK (io), 2 P0.0/VREF (io), 3 GND (power) "Ground.", 4 VDD (power) "Core Supply Voltage.", 5 VREGIN (power) "On-Chip Voltage Regulator Input.", 6 P1.7 (io) "Port 1.7. See Port I/O Section for a complete description.", 7 P1.6 (io) "Port 1.6. See Port I/O Section for a complete description.", 8 P1.5 (io) "Port 1.5. See Port I/O Section for a complete description.", 9 P1.4 (io) "Port 1.4. See Port I/O Section for a complete description.", 10 P1.3 (io) "Port 1.3. See Port I/O Section for a complete description.", 11 P1.2/CNVSTR (io), 12 P1.1 (io) "Port 1.1. See Port I/O Section for a complete description.", 13 P1.0/XTAL2 (io), 14 P0.7/XTAL1 (io), 15 P0.6/C2D (io), 16 P0.5/RX (io), 17 P0.4/TX (io), 18 P0.3 (io) "Port 0.3. See Port I/O Section for a complete description.", 19 P0.2 (io) "Port 0.2. See Port I/O Section for a complete description.", 20 P0.1 (io) "Port 0.1. See Port I/O Section for a complete description.", 21 GND (power)

## C8051F534-C-AT
designator U?
ISP Flash MCU Family, 25 MHz, 0.25 kB RAM, 4 kB Flash, -40 to 125 degC, 20-pin SOP; Manufacturer: Silicon Labs; PartNumber: C8051F534-C-AT; Note: 0; ADC 1: 12-bit, 16-ch., 200 ksps; AEC-Q100: TRUE; Comparators: 1; Debug Interface: C2; Dig I/O Pins: 16; Flash: 4 kB; Internal Osc. Accuracy: +/-0.5%; MCU Core: 8051; MHz: 25; PCA Channels: 3; RAM: 0.25 kB; Sub-Family: Automotive & Industrial MCUs; DatasheetVersion: Rev. 1.4; PackageReference: TSSOP-20; PackageDescription: 20-Pin Thin Shrink Small-Outline Package, Body 6.5 x 4.4 mm, Pitch 0.65 mm; Temp Sensor: TRUE; Timers (16-bit): 3; Mounting Technology: Surface Mount; Code_JEDEC: MO-153; Code_IPC: J-STD-020; ComponentLink1Description: Manufacturer URL; ComponentLink1URL: http://www.silabs.com; ComponentLink2Description: Datasheet; ComponentLink2URL: http://www.silabs.com/Support Documents/TechnicalDocs/C8051F52x-F53x.pdf; ComponentLink3Description: Package Specification; ComponentLink3URL: http://www.silabs.com/Support Documents/TechnicalDocs/C8051F52x-F53x.pdf
footprint SLAB-TSSOP-20_N (SOP, 20-Leads, Body 6.6x4.5mm, Pitch 0.65mm, , IPC Medium Density)
footprint SLAB-TSSOP-20_L (SOP, 20-Leads, Body 6.6x4.5mm, Pitch 0.65mm, IPC High Density)
footprint SLAB-TSSOP-20_M (SOP, 20-Leads, Body 6.6x4.5mm, Pitch 0.65mm, IPC Low Density)
pins: 1 P0.2 (io) "Port 0.2. See Port I/O Section for a complete description.", 2 P0.1 (io) "Port 0.1. See Port I/O Section for a complete description.", 3 ~{RST}/C2CK (io), 4 P0.0/VREF (io), 5 GND (power) "Ground.", 6 VDD (power) "Core Supply Voltage.", 7 VREGIN (power) "On-Chip Voltage Regulator Input.", 8 P1.7 (io) "Port 1.7. See Port I/O Section for a complete description.", 9 P1.6 (io) "Port 1.6. See Port I/O Section for a complete description.", 10 P1.5 (io) "Port 1.5. See Port I/O Section for a complete description.", 11 P1.4 (io) "Port 1.4. See Port I/O Section for a complete description.", 12 P1.3 (io) "Port 1.3. See Port I/O Section for a complete description.", 13 P1.2/CNVSTR (io), 14 P1.1 (io) "Port 1.1. See Port I/O Section for a complete description.", 15 P1.0/XTAL2 (io), 16 P0.7/XTAL1 (io), 17 P0.6/C2D (io), 18 P0.5/RX (io), 19 P0.4/TX (io), 20 P0.3 (io) "Port 0.3. See Port I/O Section for a complete description."

## C8051F534-C-IM
designator U?
ISP Flash MCU Family, 25 MHz, 0.25 kB RAM, 4 kB Flash, -40 to 125 degC, 20-pin QFN; Manufacturer: Silicon Labs; PartNumber: C8051F534-C-IM; ADC 1: 12-bit, 16-ch., 200 ksps; AEC-Q100: FALSE; Comparators: 1; Debug Interface: C2; Dig I/O Pins: 16; Flash: 4 kB; Internal Osc. Accuracy: +/-0.5%; MCU Core: 8051; MHz: 25; PCA Channels: 3; RAM: 0.25 kB; Temp Sensor: TRUE; Sub-Family: Automotive & Industrial MCUs; DatasheetVersion: Rev. 1.4; PackageReference: QFN-20; PackageDescription: 20-Pin Quad-Flat No-Leads Package, Body 4 x 4 mm, Pitch 0.5 mm; Supplier 1: Digi-Key; Supplier Part Number 1: C8051F534-C-IM-ND; Supplier 2: Mouser; Supplier Part Number 2: 634-C8051F534-C-IM; Timers (16-bit): 3; Mounting Technology: Surface Mount; Code_JEDEC: MO-220; Code_IPC: J-STD-020; ComponentLink1Description: Manufacturer URL; ComponentLink1URL: http://www.silabs.com; ComponentLink2Description: Datasheet; ComponentLink2URL: http://www.silabs.com/Support Documents/TechnicalDocs/C8051F52x-F53x.pdf; ComponentLink3Description: Package Specification; ComponentLink3URL: http://www.silabs.com/Support%20Documents/TechnicalDocs/C8051F52x-F53x.pdf
footprint SLAB-QFN-20-2700x2700TP_N (QFN, 20-Leads, Body 4x4mm, Pitch 0.5mm, Thermal Pad 2.7x2.7mm, IPC Medium Density)
footprint SLAB-QFN-20-2700x2700TP_L (QFN, 20-Leads, Body 4x4mm, Pitch 0.5mm, Thermal Pad 2.7x2.7mm, IPC High Density)
footprint SLAB-QFN-20-2700x2700TP_M (QFN, 20-Leads, Body 4x4mm, Pitch 0.5mm, Thermal Pad 2.7x2.7mm, IPC Low Density)
pins: 1 ~{RST}/C2CK (io), 2 P0.0/VREF (io), 3 GND (power) "Ground.", 4 VDD (power) "Core Supply Voltage.", 5 VREGIN (power) "On-Chip Voltage Regulator Input.", 6 P1.7 (io) "Port 1.7. See Port I/O Section for a complete description.", 7 P1.6 (io) "Port 1.6. See Port I/O Section for a complete description.", 8 P1.5 (io) "Port 1.5. See Port I/O Section for a complete description.", 9 P1.4 (io) "Port 1.4. See Port I/O Section for a complete description.", 10 P1.3 (io) "Port 1.3. See Port I/O Section for a complete description.", 11 P1.2/CNVSTR (io), 12 P1.1 (io) "Port 1.1. See Port I/O Section for a complete description.", 13 P1.0/XTAL2 (io), 14 P0.7/XTAL1 (io), 15 P0.6/C2D (io), 16 P0.5/RX (io), 17 P0.4/TX (io), 18 P0.3 (io) "Port 0.3. See Port I/O Section for a complete description.", 19 P0.2 (io) "Port 0.2. See Port I/O Section for a complete description.", 20 P0.1 (io) "Port 0.1. See Port I/O Section for a complete description.", 21 GND (power)

## C8051F534-C-IT
designator U?
ISP Flash MCU Family, 25 MHz, 0.25 kB RAM, 4 kB Flash, -40 to 125 degC, 20-pin SOP; Manufacturer: Silicon Labs; PartNumber: C8051F534-C-IT; ADC 1: 12-bit, 16-ch., 200 ksps; AEC-Q100: FALSE; Comparators: 1; Debug Interface: C2; Dig I/O Pins: 16; Flash: 4 kB; Internal Osc. Accuracy: +/-0.5%; MCU Core: 8051; MHz: 25; PCA Channels: 3; RAM: 0.25 kB; Temp Sensor: TRUE; Sub-Family: Automotive & Industrial MCUs; DatasheetVersion: Rev. 1.4; PackageReference: TSSOP-20; PackageDescription: 20-Pin Thin Shrink Small-Outline Package, Body 6.5 x 4.4 mm, Pitch 0.65 mm; Supplier 1: Digi-Key; Supplier Part Number 1: C8051F534-C-IT-ND; Supplier 2: Mouser; Supplier Part Number 2: 634-C8051F534-C-IT; Timers (16-bit): 3; Mounting Technology: Surface Mount; Code_JEDEC: MO-153; Code_IPC: J-STD-020; ComponentLink1Description: Manufacturer URL; ComponentLink1URL: http://www.silabs.com; ComponentLink2Description: Datasheet; ComponentLink2URL: http://www.silabs.com/Support Documents/TechnicalDocs/C8051F52x-F53x.pdf; ComponentLink3Description: Package Specification; ComponentLink3URL: http://www.silabs.com/Support Documents/TechnicalDocs/C8051F52x-F53x.pdf
footprint SLAB-TSSOP-20_N (SOP, 20-Leads, Body 6.6x4.5mm, Pitch 0.65mm, , IPC Medium Density)
footprint SLAB-TSSOP-20_L (SOP, 20-Leads, Body 6.6x4.5mm, Pitch 0.65mm, IPC High Density)
footprint SLAB-TSSOP-20_M (SOP, 20-Leads, Body 6.6x4.5mm, Pitch 0.65mm, IPC Low Density)
pins: 1 P0.2 (io) "Port 0.2. See Port I/O Section for a complete description.", 2 P0.1 (io) "Port 0.1. See Port I/O Section for a complete description.", 3 ~{RST}/C2CK (io), 4 P0.0/VREF (io), 5 GND (power) "Ground.", 6 VDD (power) "Core Supply Voltage.", 7 VREGIN (power) "On-Chip Voltage Regulator Input.", 8 P1.7 (io) "Port 1.7. See Port I/O Section for a complete description.", 9 P1.6 (io) "Port 1.6. See Port I/O Section for a complete description.", 10 P1.5 (io) "Port 1.5. See Port I/O Section for a complete description.", 11 P1.4 (io) "Port 1.4. See Port I/O Section for a complete description.", 12 P1.3 (io) "Port 1.3. See Port I/O Section for a complete description.", 13 P1.2/CNVSTR (io), 14 P1.1 (io) "Port 1.1. See Port I/O Section for a complete description.", 15 P1.0/XTAL2 (io), 16 P0.7/XTAL1 (io), 17 P0.6/C2D (io), 18 P0.5/RX (io), 19 P0.4/TX (io), 20 P0.3 (io) "Port 0.3. See Port I/O Section for a complete description."

## C8051F534A-AM
designator U?
Mixed Signal 4KB Flash ISP MCU, 256B RAM, 16 I/Os, 12-Bit 16 Channel ADC, SPI, 20-Pin QFN, Automotive Grade; Manufacturer: Silicon Labs; PartNumber: C8051F534A-AM; DatasheetVersion: rev1.3, Apr-2011; PackageVersion: 2011; PackageReference: QFN-20; PackageDescription: 20-Pin Quad Flat No-Lead, 4 x 4 x 0.9 mm Body, 0.5 mm Pitch; Code_JEDEC: MO-220-VGGD; ComponentLink1Description: Manufacturer URL; ComponentLink1URL: http://www.silabs.com; ComponentLink2Description: Datasheet; ComponentLink2URL: http://www.silabs.com/Support%20Documents/TechnicalDocs/C8051F52x-F53x.pdf
footprint QFN-20_V (QFN, 20-Leads, Body 4x4mm, Pitch 0.5mm, Thermal Pad 2.8x2.8mm, Silicon Labs Recommended)
pins: 1 ~{RST}/C2CK (io), 2 P0.0/VREF (io), 3 GND (power), 4 VDD (power), 5 VREGIN (power), 6 P1.7 (io), 7 P1.6 (io), 8 P1.5 (io), 9 P1.4 (io), 10 P1.3 (io), 11 P1.2/CNVSTR (io), 12 P1.1 (io), 13 P1.0/XTAL2 (io), 14 P0.7/XTAL1 (io), 15 P0.6/C2D (io), 16 P0.5/RX (io), 17 P0.4/TX (io), 18 P0.3 (io), 19 P0.2 (io), 20 P0.1 (io), 21 EP (power)

## C8051F534A-AT
designator U?
Mixed Signal 4KB Flash ISP MCU, 256B RAM, 16 I/Os, 12-Bit 16 Channel ADC, SPI, 20-Pin TSSOP, Automotive Grade; Manufacturer: Silicon Labs; PartNumber: C8051F534A-AT; DatasheetVersion: rev1.3, Apr-2011; PackageVersion: 2011; PackageReference: TSSOP-20; PackageDescription: 20-Pin Thin Small Outline Package 6.5 x 4.4 mm Body, 0.65 mm Pitch; Code_JEDEC: MO-153-AC; ComponentLink1Description: Manufacturer URL; ComponentLink1URL: http://www.silabs.com; ComponentLink2Description: Datasheet; ComponentLink2URL: http://www.silabs.com/Support%20Documents/TechnicalDocs/C8051F52x-F53x.pdf
footprint TSSOP-20_N (TSOP, 20-Leads, Body 6.5x4.4mm, Pitch 0.65mm, IPC Medium Density)
footprint TSSOP-20_L (TSOP, 20-Leads, Body 6.5x4.4mm, Pitch 0.65mm, IPC High Density)
footprint TSSOP-20_M (TSOP, 20-Leads, Body 6.5x4.4mm, Pitch 0.65mm, IPC Low Density)
pins: 1 P0.2 (io), 2 P0.1 (io), 3 ~{RST}/C2CK (io), 4 P0.0/VREF (io), 5 GND (power), 6 VDD (power), 7 VREGIN (power), 8 P1.7 (io), 9 P1.6 (io), 10 P1.5 (io), 11 P1.4 (io), 12 P1.3 (io), 13 P1.2/CNVSTR (io), 14 P1.1 (io), 15 P1.0/XTAL2 (io), 16 P0.7/XTAL1 (io), 17 P0.6/C2D (io), 18 P0.5/RX (io), 19 P0.4/TX (io), 20 P0.3 (io)

## C8051F534A-IM
designator U?
Mixed Signal 4KB Flash ISP MCU, 256B RAM, 16 I/Os, 12-Bit 16 Channel ADC, SPI, 20-Pin QFN, Industrial Grade; Manufacturer: Silicon Labs; PartNumber: C8051F534A-IM; DatasheetVersion: rev1.3, Apr-2011; PackageVersion: 2011; PackageReference: QFN-20; PackageDescription: 20-Pin Quad Flat No-Lead, 4 x 4 x 0.9 mm Body, 0.5 mm Pitch; Supplier 1: Digi-Key; Supplier Part Number 1: 336-1499-5-ND; Supplier 2: Mouser; Supplier Part Number 2: 634-C8051F534A-IM; Code_JEDEC: MO-220-VGGD; ComponentLink1Description: Manufacturer URL; ComponentLink1URL: http://www.silabs.com; ComponentLink2Description: Datasheet; ComponentLink2URL: http://www.silabs.com/Support%20Documents/TechnicalDocs/C8051F52x-F53x.pdf
footprint QFN-20_V (QFN, 20-Leads, Body 4x4mm, Pitch 0.5mm, Thermal Pad 2.8x2.8mm, Silicon Labs Recommended)
pins: 1 ~{RST}/C2CK (io), 2 P0.0/VREF (io), 3 GND (power), 4 VDD (power), 5 VREGIN (power), 6 P1.7 (io), 7 P1.6 (io), 8 P1.5 (io), 9 P1.4 (io), 10 P1.3 (io), 11 P1.2/CNVSTR (io), 12 P1.1 (io), 13 P1.0/XTAL2 (io), 14 P0.7/XTAL1 (io), 15 P0.6/C2D (io), 16 P0.5/RX (io), 17 P0.4/TX (io), 18 P0.3 (io), 19 P0.2 (io), 20 P0.1 (io), 21 EP (power)

## C8051F534A-IT
designator U?
Mixed Signal 4KB Flash ISP MCU, 256B RAM, 16 I/Os, 12-Bit 16 Channel ADC, SPI, 20-Pin TSSOP, Industrial Grade; Manufacturer: Silicon Labs; PartNumber: C8051F534A-IT; DatasheetVersion: rev1.3, Apr-2011; PackageVersion: 2011; PackageReference: TSSOP-20; PackageDescription: 20-Pin Thin Small Outline Package 6.5 x 4.4 mm Body, 0.65 mm Pitch; Supplier 1: Digi-Key; Supplier Part Number 1: 336-1500-5-ND; Supplier 2: Mouser; Supplier Part Number 2: 634-C8051F534A-IT; Code_JEDEC: MO-153-AC; ComponentLink1Description: Manufacturer URL; ComponentLink1URL: http://www.silabs.com; ComponentLink2Description: Datasheet; ComponentLink2URL: http://www.silabs.com/Support%20Documents/TechnicalDocs/C8051F52x-F53x.pdf
footprint TSSOP-20_N (TSOP, 20-Leads, Body 6.5x4.4mm, Pitch 0.65mm, IPC Medium Density)
footprint TSSOP-20_L (TSOP, 20-Leads, Body 6.5x4.4mm, Pitch 0.65mm, IPC High Density)
footprint TSSOP-20_M (TSOP, 20-Leads, Body 6.5x4.4mm, Pitch 0.65mm, IPC Low Density)
pins: 1 P0.2 (io), 2 P0.1 (io), 3 ~{RST}/C2CK (io), 4 P0.0/VREF (io), 5 GND (power), 6 VDD (power), 7 VREGIN (power), 8 P1.7 (io), 9 P1.6 (io), 10 P1.5 (io), 11 P1.4 (io), 12 P1.3 (io), 13 P1.2/CNVSTR (io), 14 P1.1 (io), 15 P1.0/XTAL2 (io), 16 P0.7/XTAL1 (io), 17 P0.6/C2D (io), 18 P0.5/RX (io), 19 P0.4/TX (io), 20 P0.3 (io)

## C8051F536-C-AM
designator U?
ISP Flash MCU Family, 25 MHz, 0.25 kB RAM, 2 kB Flash, -40 to 125 degC, 20-pin QFN; Manufacturer: Silicon Labs; PartNumber: C8051F536-C-AM; Note: 0; ADC 1: 12-bit, 16-ch., 200 ksps; AEC-Q100: TRUE; Comparators: 1; Debug Interface: C2; Dig I/O Pins: 16; Flash: 2 kB; Internal Osc. Accuracy: +/-0.5%; MCU Core: 8051; MHz: 25; PCA Channels: 3; RAM: 0.25 kB; Sub-Family: Automotive & Industrial MCUs; DatasheetVersion: Rev. 1.4; PackageReference: QFN-20; PackageDescription: 20-Pin Quad-Flat No-Leads Package, Body 4 x 4 mm, Pitch 0.5 mm; Temp Sensor: TRUE; Timers (16-bit): 3; Mounting Technology: Surface Mount; Code_JEDEC: MO-220; Code_IPC: J-STD-020; ComponentLink1Description: Manufacturer URL; ComponentLink1URL: http://www.silabs.com; ComponentLink2Description: Datasheet; ComponentLink2URL: http://www.silabs.com/Support Documents/TechnicalDocs/C8051F52x-F53x.pdf; ComponentLink3Description: Package Specification; ComponentLink3URL: http://www.silabs.com/Support%20Documents/TechnicalDocs/C8051F52x-F53x.pdf
footprint SLAB-QFN-20-2700x2700TP_N (QFN, 20-Leads, Body 4x4mm, Pitch 0.5mm, Thermal Pad 2.7x2.7mm, IPC Medium Density)
footprint SLAB-QFN-20-2700x2700TP_L (QFN, 20-Leads, Body 4x4mm, Pitch 0.5mm, Thermal Pad 2.7x2.7mm, IPC High Density)
footprint SLAB-QFN-20-2700x2700TP_M (QFN, 20-Leads, Body 4x4mm, Pitch 0.5mm, Thermal Pad 2.7x2.7mm, IPC Low Density)
pins: 1 ~{RST}/C2CK (io), 2 P0.0/VREF (io), 3 GND (power) "Ground.", 4 VDD (power) "Core Supply Voltage.", 5 VREGIN (power) "On-Chip Voltage Regulator Input.", 6 P1.7 (io) "Port 1.7. See Port I/O Section for a complete description.", 7 P1.6 (io) "Port 1.6. See Port I/O Section for a complete description.", 8 P1.5 (io) "Port 1.5. See Port I/O Section for a complete description.", 9 P1.4 (io) "Port 1.4. See Port I/O Section for a complete description.", 10 P1.3 (io) "Port 1.3. See Port I/O Section for a complete description.", 11 P1.2/CNVSTR (io), 12 P1.1 (io) "Port 1.1. See Port I/O Section for a complete description.", 13 P1.0/XTAL2 (io), 14 P0.7/XTAL1 (io), 15 P0.6/C2D (io), 16 P0.5/RX (io), 17 P0.4/TX (io), 18 P0.3 (io) "Port 0.3. See Port I/O Section for a complete description.", 19 P0.2 (io) "Port 0.2. See Port I/O Section for a complete description.", 20 P0.1 (io) "Port 0.1. See Port I/O Section for a complete description.", 21 GND (power)